# Altium footprint library CommonPcb.PcbLib: 194 footprints (part 1 of 13)
Each footprint in its own frame and in the unit in brackets; x right, y up, seen from the top. Pads: shape width x height; smd on the part's side, far side on the other; paste and mask are expansions set on the pad; w line width, h text height; cw(c..) or ccw(c..) is an arc to the next point about the centre after c.
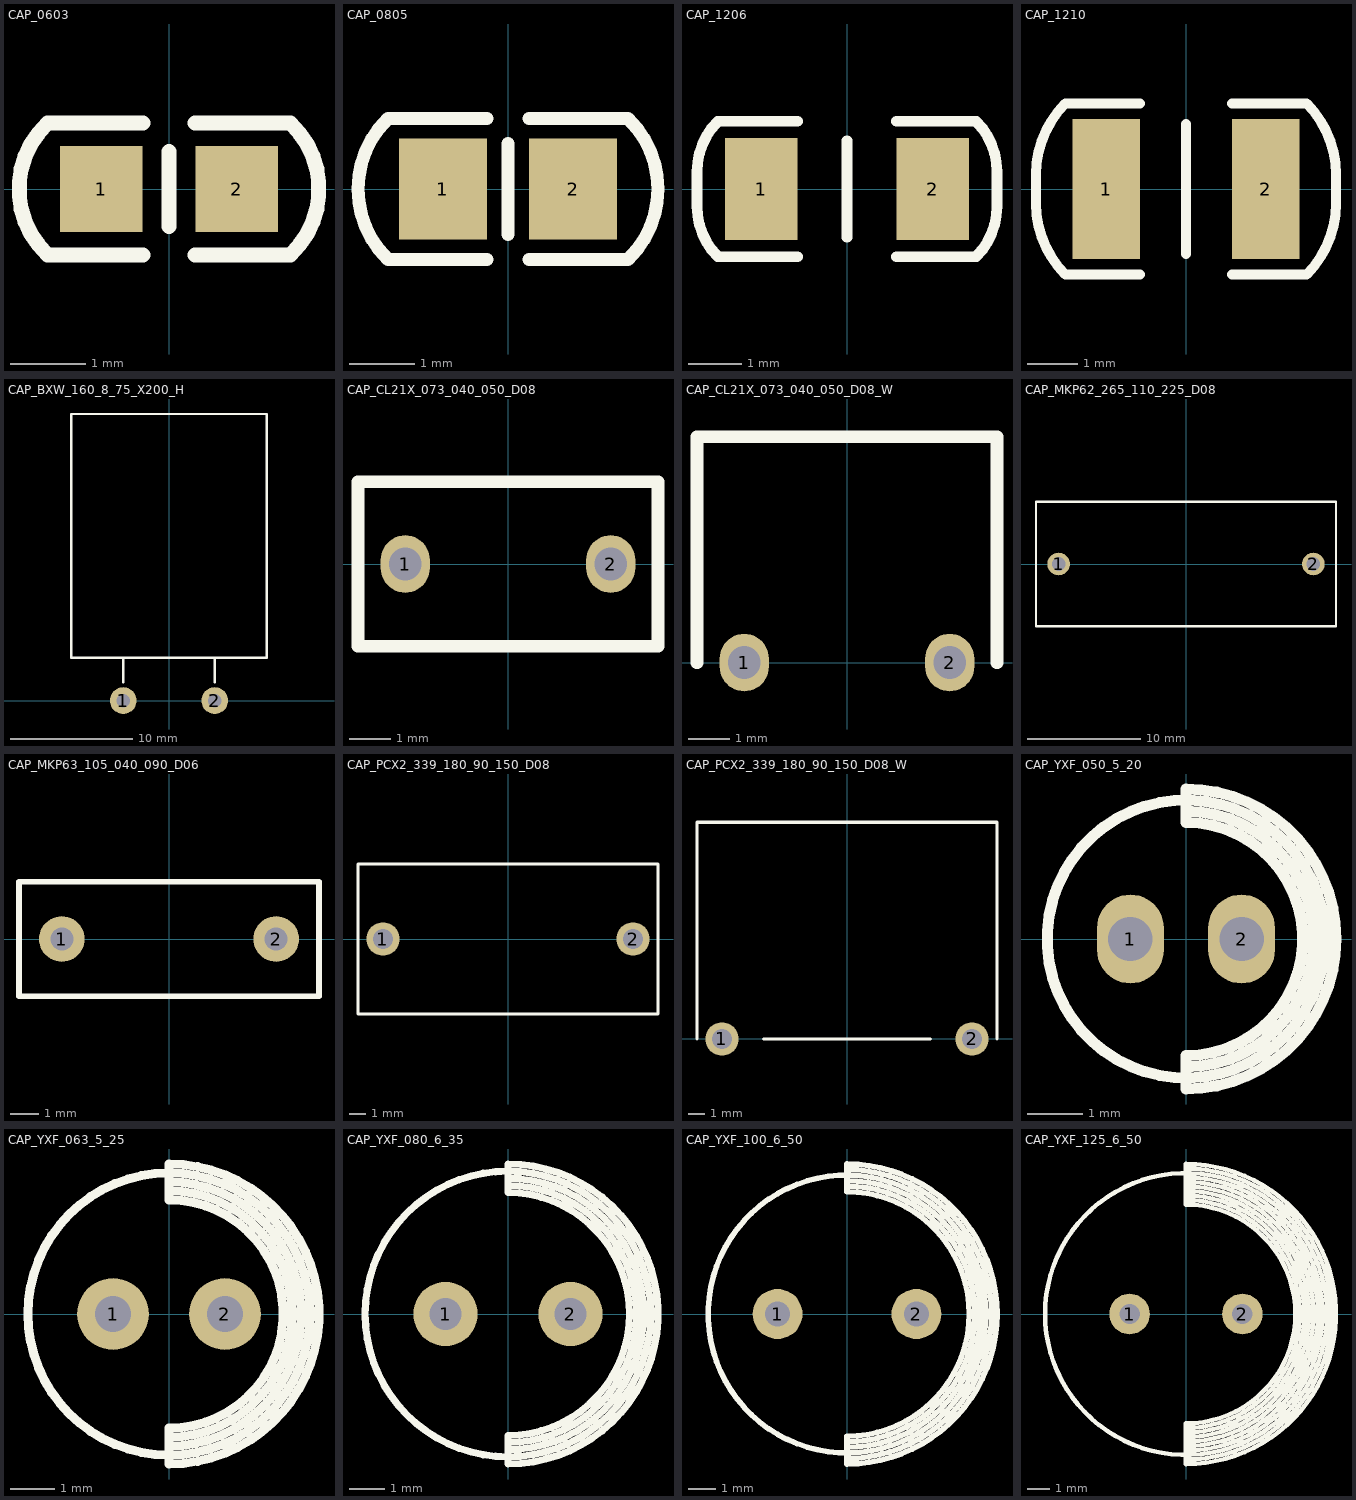
[diagram p0: the footprints below, top view; thin cyan lines are the x and y axes]

## CAP_0603 [mm] "0603"
height 1
pads (2):
  rect 1.1x1.15 smd mask+0.1: 1(-0.9,0) 2(0.9,0)
Top Overlay:
  lines w0.2: -0.35,-0.878 -1.618,-0.878 cw(c-0.8,0) -1.618,0.878 -0.35,0.878 ; 0,-0.5 0,0.5 ; 0.35,-0.878 1.618,-0.878 ccw(c0.8,0) 1.618,0.878 0.35,0.878
3D body: height 0, standoff 0, extent -0.9,-0.5 0.9,0.5

## CAP_0805 [mm] "0805"
height 1.5
pads (2):
  rect 1.35x1.55 smd mask+0.1: 1(-1,0) 2(1,0)
Top Overlay:
  lines w0.2: -0.325,-1.079 -1.842,-1.079 cw(c-0.8,0) -1.842,1.079 -0.325,1.079 ; 0,-0.7 0,0.7 ; 0.325,-1.079 1.842,-1.079 ccw(c0.8,0) 1.842,1.079 0.325,1.079
3D body: height 0, standoff 0, extent -1.1,-0.75 1.1,0.75

## CAP_1206 [mm] "1206"
height 1.9
pads (2):
  rect 1.35x1.9 smd mask+0.1: 1(-1.6,0) 2(1.6,0)
Top Overlay:
  lines w0.2: -0.925,-1.264 -2.411,-1.264 cw(c-1.471,-0.324) -2.8,-0.324 -2.8,0.324 cw(c-1.471,0.324) -2.411,1.264 -0.925,1.264 ; 0,-0.9 0,0.9 ; 0.925,-1.264 2.411,-1.264 ccw(c1.471,-0.324) 2.8,-0.324 2.8,0.324 ccw(c1.471,0.324) 2.411,1.264 0.925,1.264
3D body: height 0, standoff 0, extent -1.75,-0.95 1.75,0.95

## CAP_1210 [mm] "1210"
height 2.8
pads (2):
  rect 1.35x2.8 smd mask+0.1: 1(-1.6,0) 2(1.6,0)
Top Overlay:
  lines w0.2: -0.925,-1.714 -2.411,-1.714 cw(c-0.988,-0.291) -3,-0.291 -3,0.291 cw(c-0.988,0.291) -2.411,1.714 -0.925,1.714 ; 0,-1.3 0,1.3 ; 0.925,-1.714 2.411,-1.714 ccw(c0.988,-0.291) 3,-0.291 3,0.291 ccw(c0.988,0.291) 2.411,1.714 0.925,1.714
3D body: height 2.5, standoff 0, extent -1.8,-1.4 1.8,1.4

## CAP_BXW_160_8_75_X200_H [mm] "CAP POL"
pads (2):
  round 2.2 hole 1.1 mask+0.1: 1(-3.75,0) 2(3.75,0)
Top Overlay:
  lines w0.2: -3.75,1.5 -3.75,3.5 ; 3.75,1.5 3.75,3.5 ; -8,3.5 8,3.5 8,4.5 8,23.5 5,23.5 -8,23.5 -8,3.5
3D body: height 0, standoff 0, extent -8,-1.2 8,23.5

## CAP_CL21X_073_040_050_D08 [mm] "CL21X_073_040_050_D08"
pads (2):
  oval 1.2x1.4 hole 0.8 mask+0.1: 1(-2.5,0) 2(2.5,0)
Top Overlay:
  lines w0.3: -3.65,-2 3.65,-2 ; -3.65,2 3.65,2
  lines w0.305: -3.65,-2 -3.65,2 ; 3.65,-2 3.65,2
3D body: height 0, standoff 0, extent -3.65,-2 3.65,2

## CAP_CL21X_073_040_050_D08_W [mm] "CAP_CL21X_073_040_050_D08_W"
pads (2):
  oval 1.2x1.4 hole 0.8 mask+0.1: 1(-2.5,0) 2(2.5,0)
Top Overlay:
  lines w0.3: -3.65,5.5 3.65,5.5
  lines w0.305: -3.65,0 -3.65,5.5 ; 3.65,0 3.65,5.5
3D body: height 0, standoff 0, extent -3.65,0 3.65,5.5

## CAP_MKP62_265_110_225_D08 [mm] "MKP62 XiaMen Fara"
pads (2):
  round 2 hole 1.2 mask+0.1: 1(-11.25,0) 2(11.25,0)
Top Overlay:
  lines w0.2: -13.25,-5.5 13.25,-5.5 13.25,5.5 -13.25,5.5 -13.25,-5.5
3D body: height 0, standoff 0, extent -13.249,-5.499 13.249,5.499

## CAP_MKP63_105_040_090_D06 [mm] "MKP63_105_040_090_D06"
height 9
pads (2):
  round 1.6 hole 0.8 mask+0.1: 1(-3.75,0) 2(3.75,0)
Top Overlay:
  lines w0.2: -5.25,-2 5.25,-2 5.25,2 -5.25,2 -5.25,-2
3D body: height 0, standoff 0, extent -5.25,-2 5.25,2

## CAP_PCX2_339_180_90_150_D08 [mm] "Pilkor PCX2 339"
pads (2):
  round 2 hole 1.2 mask+0.1: 1(-7.5,0) 2(7.5,0)
Top Overlay:
  lines w0.2: -9,-4.5 9,-4.5 9,4.5 -9,4.5 -9,-4.5
3D body: height 0, standoff 0, extent -8.999,-4.499 8.999,4.499

## CAP_PCX2_339_180_90_150_D08_W [mm] "Pilkor PCX2 339"
pads (2):
  round 2 hole 1.2 mask+0.1: 1(-7.5,0) 2(7.5,0)
Top Overlay:
  lines w0.2: -9,0 -9,13 9,13 9,0 ; -5,0 5,0
3D body: height 0, standoff 0, extent -9.1,-0.1 9.1,13

## CAP_YXF_050_5_20 [mm] "CAP POL"
pads (2):
  oval 1.2x1.6 hole 0.8 mask+0.1: 1(-1,0) 2(1,0)
Top Overlay:
  circle w0.2: c0,0 r2.5
  lines w0.2: 0,-2.3 ccw(c0,0) 0,2.3 ; 0,-2.7 ccw(c0,0) 0,2.7 0,2.1 cw(c0,0) 0,-2.1 0,-2.7
3D body: height 0, standoff 0, extent -2.499,-2.499 2.499,2.499

## CAP_YXF_063_5_25 [mm] "CAP POL"
pads (2):
  round 1.6 hole 0.8 mask+0.1: 1(-1.25,0) 2(1.25,0)
Top Overlay:
  circle w0.2: c0,0 r3.15
  lines w0.2: 0,-2.95 ccw(c0,0) 0,2.95 ; 0,-2.75 ccw(c0,0) 0,2.75 ; 0,-3.35 ccw(c0,0) 0,3.35 0,2.55 cw(c0,0) 0,-2.55 0,-3.35
3D body: height 0, standoff 0, extent -3.149,-3.149 3.149,3.149

## CAP_YXF_080_6_35 [mm] "CAP POL"
pads (2):
  round 1.8 hole 0.9 mask+0.1: 1(-1.75,0) 2(1.75,0)
Top Overlay:
  circle w0.2: c0,0 r4
  lines w0.2: 0,-3.8 ccw(c0,0) 0,3.8 ; 0,-3.6 ccw(c0,0) 0,3.6 ; 0,-4.2 ccw(c0,0) 0,4.2 0,3.4 cw(c0,0) 0,-3.4 0,-4.2
3D body: height 0, standoff 0, extent -3.999,-3.999 3.999,3.999

## CAP_YXF_100_6_50 [mm] "CAP POL"
pads (2):
  round 1.8 hole 0.9 mask+0.1: 1(-2.5,0) 2(2.5,0)
Top Overlay:
  circle w0.2: c0,0 r5
  lines w0.2: 0,-5.2 ccw(c0,0) 0,5.2 ; 0,-4.8 ccw(c0,0) 0,4.8 ; 0,-4.6 ccw(c0,0) 0,4.6 ; 0,-5.4 ccw(c0,0) 0,5.4 0,4.4 cw(c0,0) 0,-4.4 0,-5.4
3D body: height 0, standoff 0, extent -4.999,-4.999 4.999,4.999

## CAP_YXF_125_6_50 [mm] "CAP POL"
pads (2):
  round 1.8 hole 0.9 mask+0.1: 1(-2.5,0) 2(2.5,0)
Top Overlay:
  circle w0.2: c0,0 r6.25
  lines w0.2: 0,-6.45 ccw(c0,0) 0,6.45 ; 0,-6.05 ccw(c0,0) 0,6.05 ; 0,-5.85 ccw(c0,0) 0,5.85 ; 0,-5.65 ccw(c0,0) 0,5.65 ; 0,-5.45 ccw(c0,0) 0,5.45 ; 0,-5.25 ccw(c0,0) 0,5.25 ; 0,-5.05 ccw(c0,0) 0,5.05 ; 0,-6.65 ccw(c0,0) 0,6.65 0,4.85 cw(c0,0) 0,-4.85 0,-6.65
3D body: height 0, standoff 0, extent -6.249,-6.249 6.249,6.249